# EAGLE library part POWER_UI_SHIELD (library wicked-device)
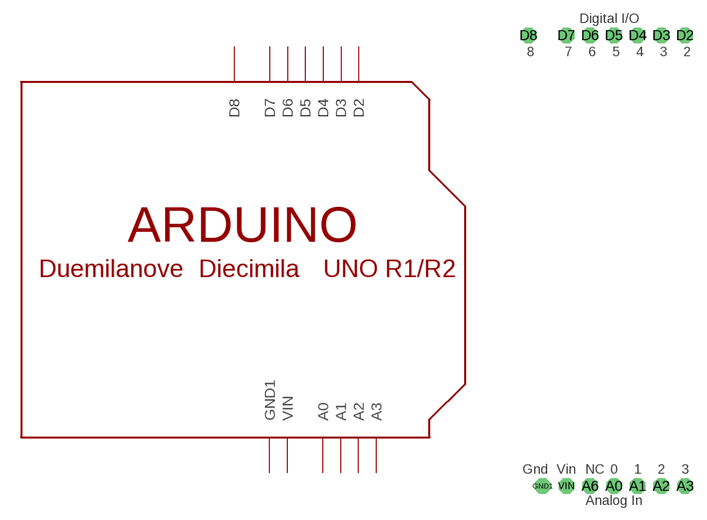
[diagram p8: symbol with the pads of POWER_UI_SHIELD; footprint POWER_UI_SHIELD]

Designator prefix -

## POWER_UI_SHIELD  [POWER_UI_SHIELD]
A0  A0
A1  A1
A2  A2
A3  A3
D2  D2
D3  D3
D4  D4
D5  D5
D6  D6
D7  D7
D8  D8
GND1  GND1  pwr
VIN  VIN  pwr

## Footprint POWER_UI_SHIELD (pad centres in mm)
drill 1 pad 1.676 octagon: A0 11.43,2.54; A1 13.97,2.54; A2 16.51,2.54; A3 19.05,2.54; A6 8.89,2.54; D2 19.05,50.8; D3 16.51,50.8; D4 13.97,50.8; D5 11.43,50.8; D6 8.89,50.8; D7 6.35,50.8; D8 2.286,50.8; GND1 3.81,2.54; VIN 6.35,2.54